# EAGLE library part SN74AVC2T245RSWR (library texas_instruments)
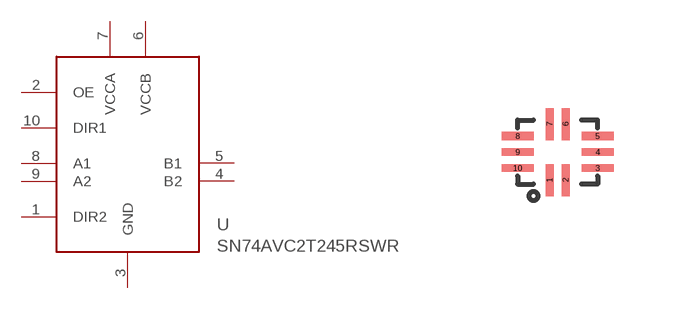
[diagram p3: symbol with the pads of UQFN-10; footprint UQFN-10]

Designator prefix -

## SN74AVC2T245RSWR  [UQFN-10]
1  DIR2
2  OE
3  GND
4  B2
5  B1
6  VCCB
7  VCCA
8  A1
9  A2
10  DIR1

## Footprint UQFN-10 (pad centres in mm)
smd 0.2 x 0.8: 1 0,0; 2 0.4,0; 6 0.4,1.4; 7 0,1.4
smd 0.8 x 0.2: 3 1.2,0.3; 4 1.2,0.7; 5 1.2,1.1; 8 -0.8,1.1; 9 -0.8,0.7; 10 -0.8,0.3